# Altium footprint library PcbLib1.PcbLib: 2 footprints
Each footprint in its own frame and in the unit in brackets; x right, y up, seen from the top. Pads: shape width x height; smd on the part's side, far side on the other; paste and mask are expansions set on the pad; w line width, h text height; cw(c..) or ccw(c..) is an arc to the next point about the centre after c.
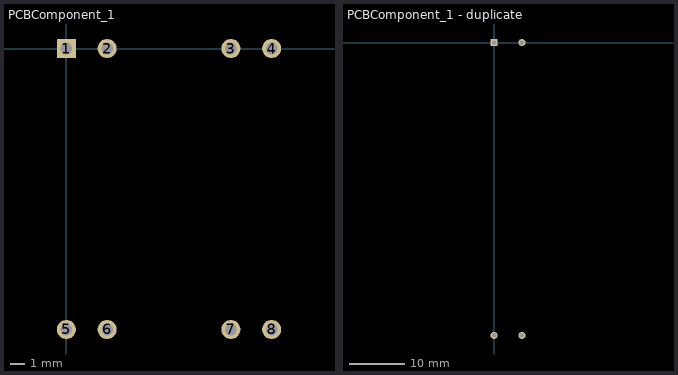
[diagram p0: the footprints below, top view; thin cyan lines are the x and y axes]

## PCBComponent_1 [mil]
pads (8):
  rect 51.5x51.5 hole 31.5: 1(0,0)
  round 51.5 hole 31.5: 2(110,0) 3(445,0) 4(555,0) 5(0,-760) 6(110,-760) 7(445,-760) 8(555,-760)

## PCBComponent_1 - duplicate [mm]
pads (4):
  rect 1.308x1.308 hole 0.8: 1(0,0)
  round 1.308 hole 0.8: 2(5.08,0) 3(0,-53.34) 4(5.08,-53.34)